# Altium footprint library ARM_Libary_EURO.PcbLib: 112 footprints (part 1 of 7)
Each footprint in its own frame and in the unit in brackets; x right, y up, seen from the top. Pads: shape width x height; smd on the part's side, far side on the other; paste and mask are expansions set on the pad; w line width, h text height; cw(c..) or ccw(c..) is an arc to the next point about the centre after c.
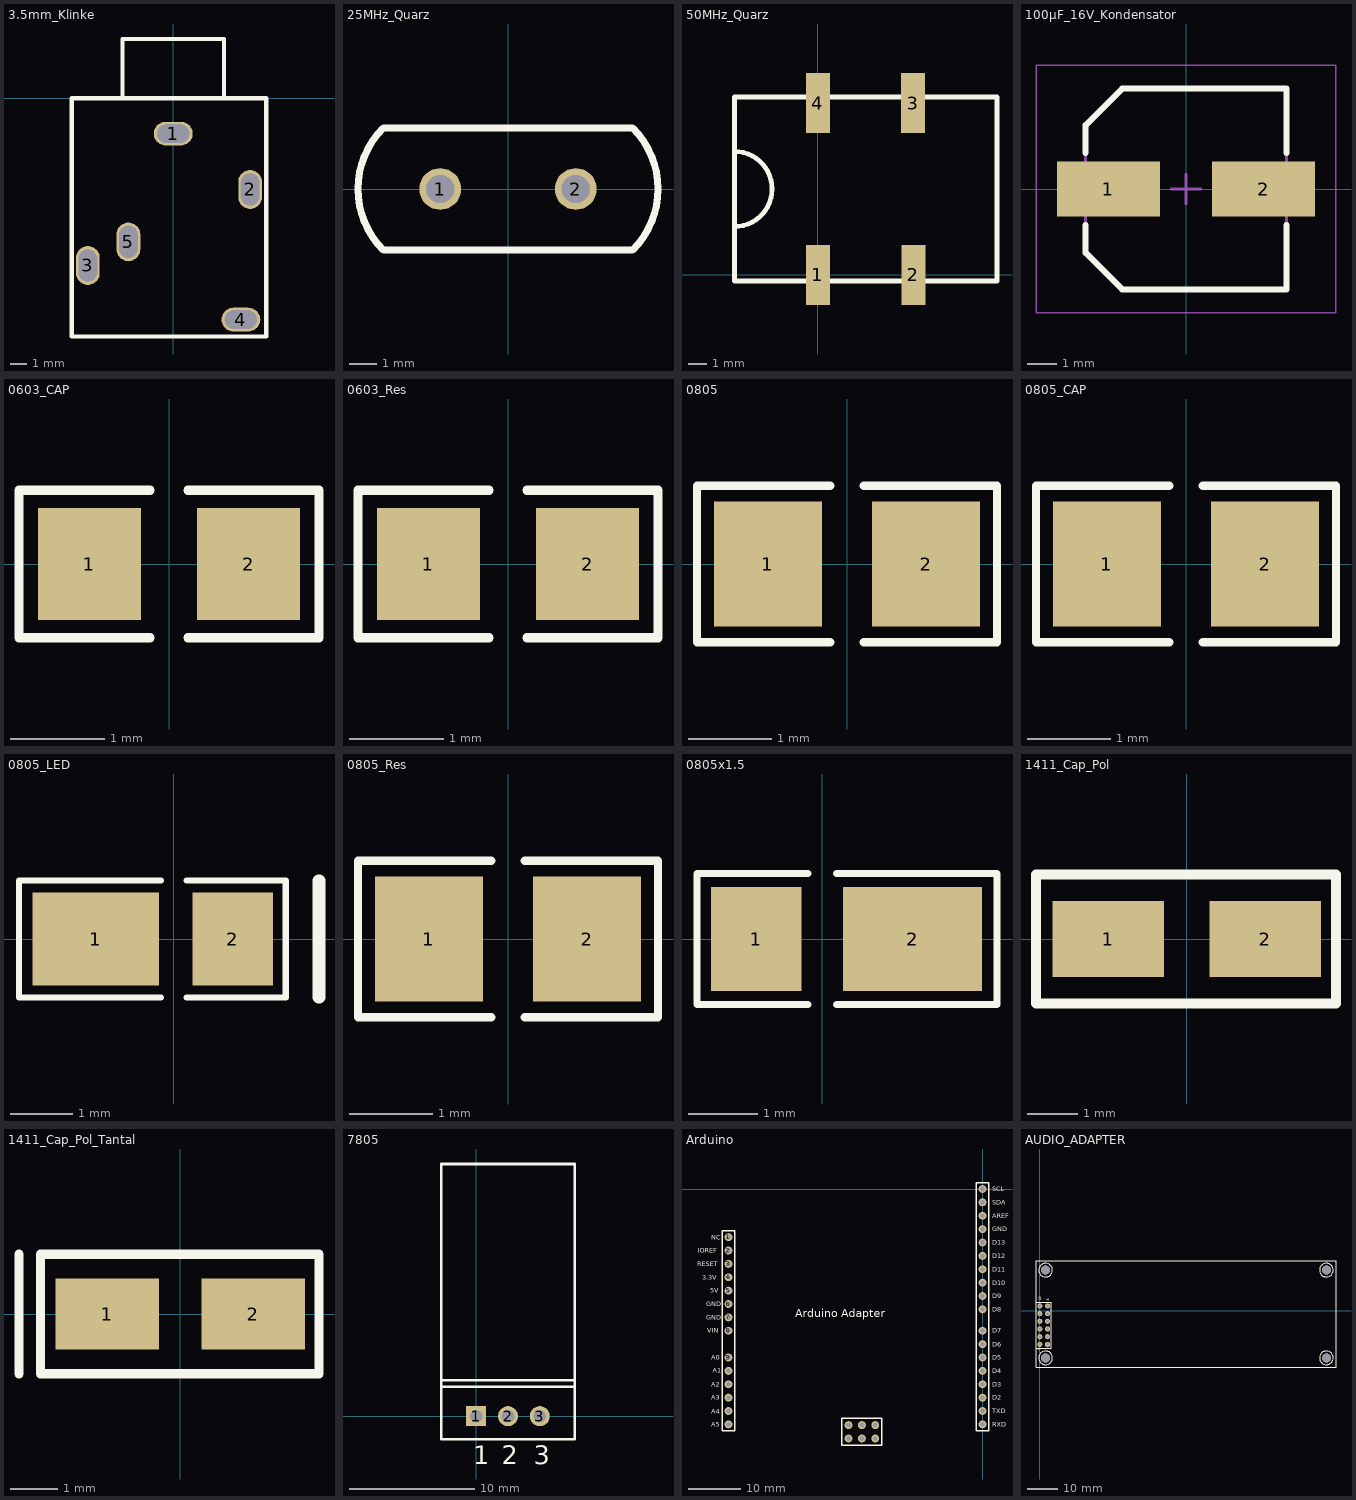
[diagram p0: the footprints below, top view; thin cyan lines are the x and y axes]

## 3.5mm_Klinke [mm] "Klinkenbuchse 3,5mm"
height 6
pads (5):
  oval 2.3x1.4 hole 1.1 slot 1.9 at 0 deg: 1(0,-2.1) 4(4,-13.1)
  oval 1.4x2.3 hole 1.1 slot 1.9 at 90 deg: 2(4.55,-5.4) 3(-5.05,-9.9) 5(-2.65,-8.5)
Top Overlay:
  lines w0.254: -3,0 -3,3.5 3,3.5 3,0 ; -6,-14.1 5.5,-14.1 5.5,0 0,0 -6,0 -6,-14.1

## 25MHz_Quarz [mm] "HC49-4H"
pads (2):
  round 1.5 hole 1.016: 1(-2.44,0) 2(2.44,0)
Top Overlay:
  lines w0.254: -4.486,-2.2 cw(c-2.286,0) -4.486,2.2 4.486,2.2 cw(c2.286,0) 4.486,-2.2 -4.486,-2.2

## 50MHz_Quarz [mm] "50MHz Quarz"
height 4.06
pads (4):
  rect 1.28x3.2 smd: 1(0,0) 2(5.09,0) 3(5.08,9.15) 4(0,9.15)
Top Overlay:
  lines w0.254: -4.445,2.575 ccw(c-4.445,4.575) -4.445,6.575 ; -4.445,-0.325 9.555,-0.325 9.555,9.475 -4.445,9.475 -4.445,-0.325

## 100µF_16V_Kondensator [mm]
pads (2):
  rect 3.5x1.85 smd: 1(-2.625,0) 2(2.625,0)
Top Overlay:
  lines w0.2: -3.4,-1.225 -3.4,-2.163 -2.163,-3.4 3.4,-3.4 3.4,-1.225 ; -3.4,1.225 -3.4,2.163 -2.163,3.4 3.4,3.4 3.4,1.225
Mechanical 13:
  lines w0.1: -3.4,-2.163 -2.163,-3.4 3.4,-3.4 3.4,3.4 -2.163,3.4 -3.4,2.163 -3.4,-2.163
Mechanical 15:
  lines w0.05: -5.08,-4.191 -5.08,4.191 5.08,4.191 5.08,-4.191 -5.08,-4.191
  lines w0.1: -0.5,0 0.5,0 ; 0,-0.5 0,0.5
3D body: height 2.1, standoff 0, extent -3.4,-3.4 3.4,3.4
3D body: height 6.3, standoff 0, extent -3.15,-3.15 3.125,3.138

## 0603_CAP [mm]
pads (2):
  rect 1.1x1.2 smd: 1(-0.85,0) 2(0.85,0)
Top Overlay:
  lines w0.1: -0.203,-0.787 -1.6,-0.787 -1.6,0.787 -0.203,0.787 ; 0.203,-0.787 1.6,-0.787 1.6,0.787 0.203,0.787

## 0603_Res [mm]
pads (2):
  rect 1.1x1.2 smd: 1(-0.85,0) 2(0.85,0)
Top Overlay:
  lines w0.1: -0.203,-0.787 -1.6,-0.787 -1.6,0.787 -0.203,0.787 ; 0.203,-0.787 1.6,-0.787 1.6,0.787 0.203,0.787

## 0805 [mm] "0805 Footprint"
pads (2):
  rect 1.3x1.5 smd: 1(-0.95,0) 2(0.95,0)
Top Overlay:
  lines w0.1: -0.203,-0.94 -1.803,-0.94 -1.803,0.94 -0.203,0.94 ; 0.203,-0.94 1.803,-0.94 1.803,0.94 0.203,0.94

## 0805_CAP [mm]
pads (2):
  rect 1.3x1.5 smd: 1(-0.95,0) 2(0.95,0)
Top Overlay:
  lines w0.1: -0.203,-0.94 -1.803,-0.94 -1.803,0.94 -0.203,0.94 ; 0.203,-0.94 1.803,-0.94 1.803,0.94 0.203,0.94

## 0805_LED [mm]
pads (2):
  rect 2.035x1.5 smd: 1(-1.255,0)
  rect 1.3x1.5 smd: 2(0.95,0)
Top Overlay:
  lines w0.1: -0.203,-0.94 -2.489,-0.94 -2.489,0.94 -0.203,0.94 ; 0.203,-0.94 1.803,-0.94 1.803,0.94 0.203,0.94
  lines w0.203: 2.337,-0.94 2.337,0.94

## 0805_Res [mm]
pads (2):
  rect 1.3x1.5 smd: 1(-0.95,0) 2(0.95,0)
Top Overlay:
  lines w0.1: -0.203,-0.94 -1.803,-0.94 -1.803,0.94 -0.203,0.94 ; 0.203,-0.94 1.803,-0.94 1.803,0.94 0.203,0.94

## 0805x1.5 [mm] "0805 Footprint for non polarized Capacitors"
pads (2):
  rect 1.3x1.5 smd: 1(-0.95,0)
  rect 2x1.5 smd: 2(1.3,0)
Top Overlay:
  lines w0.1: -0.203,-0.94 -1.803,-0.94 -1.803,0.94 -0.203,0.94 ; 0.203,-0.94 2.515,-0.94 2.515,0.94 0.203,0.94

## 1411_Cap_Pol [mm]
pads (2):
  rect 2.2x1.5 smd: 1(-1.55,0) 2(1.55,0)
Top Overlay:
  lines w0.2: -2.972,-1.27 -2.972,1.27 -2.469,1.27 -1.919,1.27 -1.645,1.27 1.264,1.27 1.983,1.27 2.946,1.27 2.946,-1.27 1.187,-1.27 -1.213,-1.27 -2.972,-1.27

## 1411_Cap_Pol_Tantal [mm]
pads (2):
  rect 2.2x1.5 smd: 1(-1.55,0) 2(1.55,0)
Top Overlay:
  lines w0.2: -3.429,-1.27 -3.429,1.27 ; -2.972,-1.27 -1.213,-1.27 1.187,-1.27 2.946,-1.27 2.946,1.27 1.983,1.27 1.264,1.27 -1.645,1.27 -1.919,1.27 -2.469,1.27 -2.972,1.27 -2.972,-1.27

## 7805 [mm] "+5V Fixspannungsregler"
pads (3):
  rect 1.6x1.6 hole 1: 1(0,0)
  round 1.6 hole 1: 2(2.54,0) 3(5.08,0)
Top Overlay:
  lines w0.2: -2.81,2.35 7.89,2.35 ; -2.81,2.85 7.89,2.85 ; -2.81,-1.85 7.89,-1.85 7.89,20.15 -2.81,20.15 -2.81,-1.85
  text "3" at 4.58,-3.825 h1.5
  text "1" at -0.25,-3.825 h1.5
  text "2" at 2.04,-3.825 h1.5

## Arduino [mm]
pads (38):
  round 1.5 hole 0.9: 1(-48.26,-9.144) 2(-48.26,-11.684) 3(-48.26,-14.224) 4(-48.26,-16.764) 5(-48.26,-19.304) 6(-48.26,-21.844) 7(-48.26,-24.384) 8(-48.26,-26.924) 9(-48.26,-32.004) 10(-48.26,-34.544) 11(-48.26,-37.084) 12(-48.26,-39.624) 13(-48.26,-42.164) 14(-48.26,-44.704) 15(0,-44.704) 16(0,-42.164) 17(0,-39.624) 18(0,-37.084) 19(0,-34.544) 20(0,-32.004) 21(0,-29.464) 22(0,-26.924) 23(0,-22.86) 24(0,-20.32) 25(0,-17.78) 26(0,-15.24) 27(0,-12.7) 28(0,-10.16) 29(0,-7.62) 30(0,-5.08) 31(0,-2.54) 32(0,0) 33(-25.45,-44.844) 34(-22.91,-44.844) 35(-20.37,-44.844) 36(-25.45,-47.384) 37(-22.91,-47.384) 38(-20.37,-47.384)
Top Overlay:
  lines w0.254: -49.46,-45.924 -49.46,-44.524 -49.46,-7.924 -47.06,-7.924 -47.06,-45.924 -49.46,-45.924 ; -26.72,-48.654 -19.1,-48.654 -19.1,-43.574 -26.72,-43.574 -26.72,-48.654 ; -1.16,-45.924 -1.16,1.176 1.14,1.176 1.14,-45.924 -1.16,-45.924
  text "GND" at -52.445,-24.844 h0.89
  text "A3" at -51.56,-40.044 h0.89
  text "A4" at -51.56,-42.644 h0.89
  text "A5" at -51.56,-45.144 h0.89
  text "A2" at -51.56,-37.544 h0.89
  text "A1" at -51.26,-34.944 h0.89
  text "A0" at -51.56,-32.444 h0.89
  text "VIN" at -52.31,-27.344 h0.89
  text "GND" at -52.46,-22.294 h0.89
  text "5V" at -51.685,-19.744 h0.89
  text "3.3V" at -53.21,-17.244 h0.89
  text "RESET" at -54.235,-14.644 h0.89
  text "IOREF" at -54.085,-12.144 h0.89
  text "NC" at -51.56,-9.644 h0.89
  text "Arduino Adapter" at -35.56,-24.384 h1.52
  text "SCL" at 1.865,-0.444 h0.89
  text "SDA" at 1.865,-2.994 h0.89
  text "GND" at 1.865,-8.044 h0.89
  text "D13" at 1.865,-10.594 h0.89
  text "D12" at 1.865,-13.144 h0.89
  text "D10" at 1.865,-18.244 h0.89
  text "D11" at 1.865,-15.669 h0.89
  text "D7" at 1.865,-27.344 h0.89
  text "D6" at 1.865,-29.919 h0.89
  text "D8" at 1.865,-23.319 h0.89
  text "D9" at 1.865,-20.744 h0.89
  text "D3" at 1.865,-37.519 h0.89
  text "D2" at 1.865,-40.044 h0.89
  text "D4" at 1.865,-34.994 h0.89
  text "D5" at 1.865,-32.444 h0.89
  text "RXD" at 1.865,-45.144 h0.89
  text "TXD" at 1.865,-42.619 h0.89
  text "AREF" at 1.865,-5.544 h0.89

## AUDIO_ADAPTER [mm] "Adapter-Connector"
pads (12):
  oct 1.7x1.7 hole 0.9: 1(2.54,-11.176)
  round 1.7 hole 0.9: 2(2.54,-8.636) 3(2.54,-6.096) 4(2.54,-3.556) 5(2.54,-1.016) 6(2.54,1.524) 7(0,-11.176) 8(0,-8.636) 9(0,-6.096) 10(0,-3.556) 11(0,-1.016) 12(0,1.524)
via 94.615,13.335 diameter 3 hole 3
via 94.615,-15.621 diameter 3 hole 3
via 1.905,-15.621 diameter 3 hole 3
via 1.905,13.335 diameter 3 hole 3
Top Overlay:
  circle w0.254: c94.615,13.335 r2.25
  circle w0.254: c94.615,-15.621 r2.25
  circle w0.254: c1.905,-15.621 r2.25
  circle w0.254: c1.905,13.335 r2.25
  lines w0.2: -1.27,-12.446 3.81,-12.446 3.81,2.794 -1.27,2.794 -1.27,-12.446
  lines w0.254: -1.27,-18.796 97.79,-18.796 97.79,16.51 -1.27,16.51 -1.27,-18.796
  text "1" at 2.794,-12.954 h0.8
  text "7" at 0.254,-13.208 h0.8
  text "12" at 0.508,3.302 h0.8
  text "6" at 3.048,3.302 h0.8
Bottom Overlay:
  circle w0.254: c94.615,13.335 r2.25
  circle w0.254: c94.615,-15.621 r2.25
  circle w0.254: c1.905,-15.621 r2.25
  circle w0.254: c1.905,13.335 r2.25